# EAGLE library part IC_DS1085 (library dp_devices)
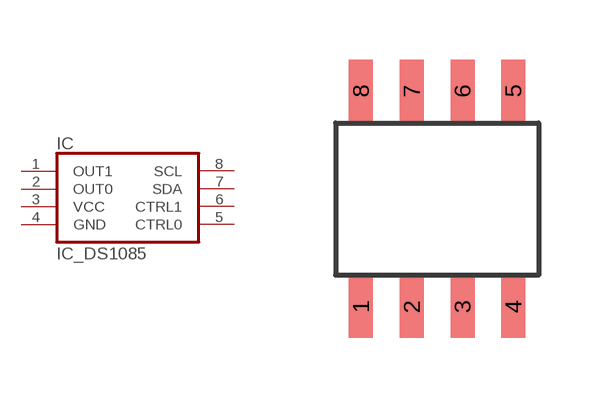
[diagram p38: symbol with the pads of SO-8; footprint SO-8]

Designator prefix IC

## IC_DS1085-SO-8  [SO-8]
1  OUT1  out
2  OUT0  out
3  VCC  pwr
4  GND  pwr
5  CTRL0  in
6  CTRL1  in
7  SDA
8  SCL  in

## Footprint SO-8 (pad centres in mm)
smd 0.6 x 1.55: 1 -1.905,-2.69; 2 -0.635,-2.69; 3 0.635,-2.69; 4 1.905,-2.69; 5 1.905,2.71; 6 0.635,2.71; 7 -0.635,2.71; 8 -1.905,2.71